# EAGLE library part DIP_SW_8BIT-SMD_1.27MM_PITCH (library 180118 Library by matsu)
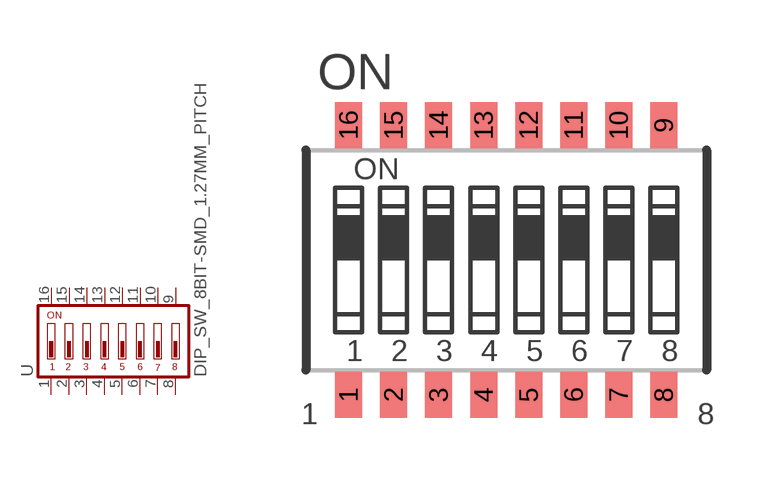
[diagram p48: symbol with the pads of DIP_SW_8BIT-SMD_1.27MM_PITCH; footprint DIP_SW_8BIT-SMD_1.27MM_PITCH]

Designator prefix -

## DIP_SW_8BIT-SMD_1.27MM_PITCH  [DIP_SW_8BIT-SMD_1.27MM_PITCH]
1  1  pas
2  2  pas
3  3  pas
4  4  pas
5  5  pas
6  6  pas
7  7  pas
8  8  pas
9  9  pas
10  10  pas
11  11  pas
12  12  pas
13  13  pas
14  14  pas
15  15  pas
16  16  pas

## Footprint DIP_SW_8BIT-SMD_1.27MM_PITCH (pad centres in mm)
Surface Mount DIP Switch Series 219 SMT CTS Electronic Components Sourc: www.ctscorp.com
smd 0.76 x 1.3: 1 -4.445,-3.8; 2 -3.175,-3.8; 3 -1.905,-3.8; 4 -0.635,-3.8; 5 0.635,-3.8; 6 1.905,-3.8; 7 3.175,-3.8; 8 4.445,-3.8; 9 4.445,3.8; 10 3.175,3.8; 11 1.905,3.8; 12 0.635,3.8; 13 -0.635,3.8; 14 -1.905,3.8; 15 -3.175,3.8; 16 -4.445,3.8